# Altium schematic symbol library 24 Pin 100 mil Vertical Header - Through Hole.SchLib: 1 symbol
Pins are listed as number, name and electrical type; pins without a type are passive.

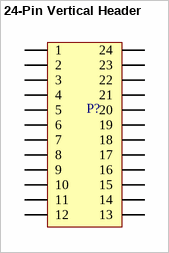
[diagram p0: symbol 24-Pin Vertical Header]

## 24-Pin Vertical Header
designator P?  (value not drawn)
Manufacturer: Sullins; Manufacturer No.: PPPC132LFBN-RC
footprint 24-Pin Vertical Header
pins: 1, 2, 3, 4, 5, 6, 7, 8, 9, 10, 11, 12, 13, 14, 15, 16, 17, 18, 19, 20, 21, 22, 23, 24